# Altium schematic symbol library Logic (1).SchLib: 12 symbols
Pins are listed as number, name and electrical type; pins without a type are passive.

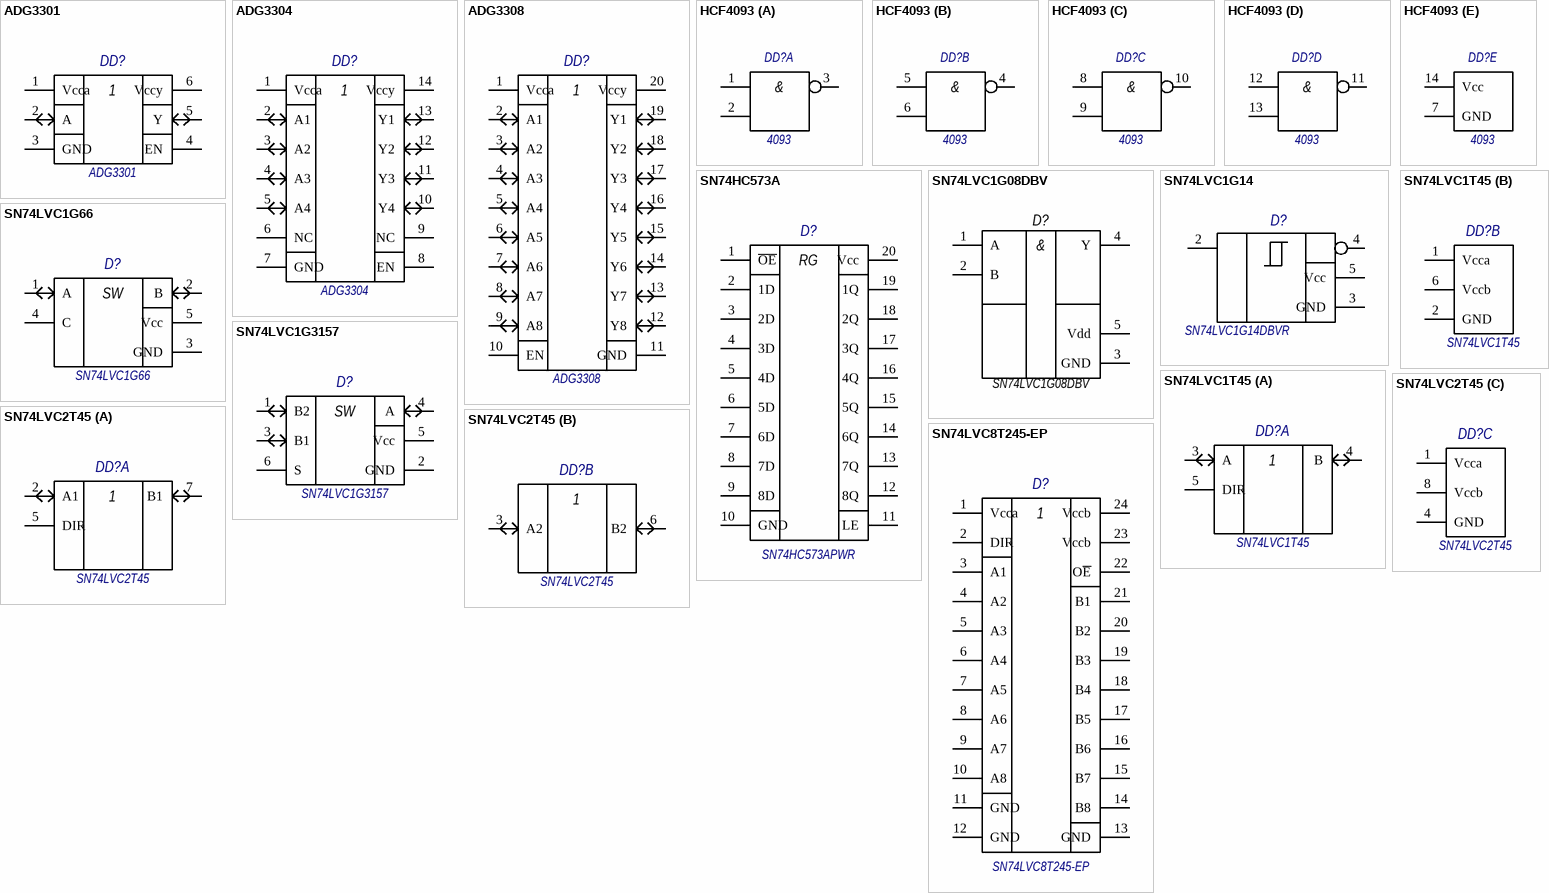
[diagram p0: symbols ADG3301 to SN74LVC8T245-EP]

## ADG3301
designator DD?  Type: ADG3301
Bidirectional Logic Level Translator
footprint SC70 (SC70, 6-Leads, Body 2,00x2,10mm, Pitch 0,65mm, IPC Medium Density)
pins: 1 Vcca, 2 A, 3 GND, 4 EN, 5 Y, 6 Vccy

## ADG3304
designator DD?  Type: ADG3304
Bidirectional Logic Level Translator
footprint TSSOP14N (TSSOP, 14-Leads, Body 5,00x4,40mm, Pitch 0,65mm, IPC Medium Density)
pins: 1 Vcca, 2 A1, 3 A2, 4 A3, 5 A4, 6 NC, 7 GND, 8 EN, 9 NC, 10 Y4, 11 Y3, 12 Y2, 13 Y1, 14 Vccy

## ADG3308
designator DD?  Type: ADG3308
Bidirectional Logic Level Translator
footprint TSSOP20_N (TSSOP, 20-Leads, Body 6,50x4,40mm, Pitch 0,65mm, IPC Medium Density)
pins: 1 Vcca, 2 A1, 3 A2, 4 A3, 5 A4, 6 A5, 7 A6, 8 A7, 9 A8, 10 EN, 11 GND, 12 Y8, 13 Y7, 14 Y6, 15 Y5, 16 Y4, 17 Y3, 18 Y2, 19 Y1, 20 Vccy

## HCF4093
designator DD?  Type: 4093  (hidden comment: *)
footprint SO-14
part A pins: 1, 2, 3
part B pins: 4, 5, 6
part C pins: 8, 9, 10
part D pins: 11, 12, 13
part E pins: 7 GND, 14 Vcc
part A text: &
part B text: &
part C text: &
part D text: &

## SN74HC573A
designator D?  Type: SN74HC573APWR
Регистр-защелка с тремя состояниями на выходе
footprint TSSOP20_N (TSSOP, 20-Leads, Body 6,50x4,40mm, Pitch 0,65mm, IPC Medium Density)
pins: 1 ~{OE}, 2 1D, 3 2D, 4 3D, 5 4D, 6 5D, 7 6D, 8 7D, 9 8D, 10 GND, 11 LE, 12 8Q, 13 7Q, 14 6Q, 15 5Q, 16 4Q, 17 3Q, 18 2Q, 19 1Q, 20 Vcc
text: RG

## SN74LVC1G08DBV
designator D?  Type: SN74LVC1G08DBV  (hidden comment: *)
Single 2-Input Positive-AND Gate
footprint SOT23-5 (SOT23, 5-Leads, Body 2,90x2,80mm, Pitch 0,95mm, IPC Medium Density)
pins: 1 A, 2 B, 3 GND, 4 Y, 5 Vdd
text: &

## SN74LVC1G14
designator D?, comment Type: SN74LVC1G14DBVR  (hidden comment: 74LVC1G14)
footprint SOT23-5 (SOT23, 5-Leads, Body 2,90x2,80mm, Pitch 0,95mm, IPC Medium Density)
pins: 2 IN, 3 GND, 4 OUT, 5 Vcc

## SN74LVC1G66
designator D?  Type: SN74LVC1G66  (hidden comment: *)
Single Analog and Digital Switch
footprint SOT-23-5
pins: 1 A, 2 B, 3 GND, 4 C, 5 Vcc
text: SW

## SN74LVC1G3157
designator D?  Type: SN74LVC1G3157
Single-Pole Double-Throw Analog Switch
footprint SOT-23-6
pins: 1 B2, 2 GND, 3 B1, 4 A, 5 Vcc, 6 S
text: SW

## SN74LVC1T45
designator DD?  Type: SN74LVC1T45
Single-Bit Dual-Supply Bus Transceiver
footprint SOT-23-6
part A pins: 3 A, 4 B, 5 DIR
part B pins: 1 Vcca, 2 GND, 6 Vccb

## SN74LVC2T45
designator DD?  Type: SN74LVC2T45  (hidden comment: *)
Dual-Bit Dual-Supply bus Transceiver
footprint SM-8
part A pins: 2 A1, 5 DIR, 7 B1
part B pins: 3 A2, 6 B2
part C pins: 1 Vcca, 4 GND, 8 Vccb

## SN74LVC8T245-EP
designator D?  Type: SN74LVC8T245-EP
Bidirectional Logic Level Translator
footprint TSSOP24
pins: 1 Vcca, 2 DIR, 3 A1, 4 A2, 5 A3, 6 A4, 7 A5, 8 A6, 9 A7, 10 A8, 11 GND, 12 GND, 13 GND, 14 B8, 15 B7, 16 B6, 17 B5, 18 B4, 19 B3, 20 B2, 21 B1, 22 O~{E}, 23 Vccb, 24 Vccb